# EAGLE library part ST-USB-ECMF02-4CMX8 (library duraTerm)
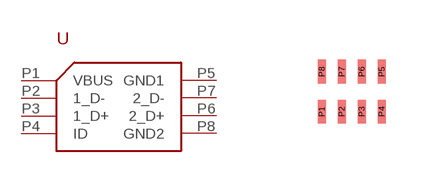
[diagram p4: symbol with the pads of UQFN-8L; footprint UQFN-8L]

Designator prefix U

## ST-USB-ECMF02-4CMX8  [UQFN-8L]
P1  VBUS
P2  1_D-
P3  1_D+
P4  ID
P5  GND1
P6  2_D+
P7  2_D-
P8  GND2

## Footprint UQFN-8L (pad centres in mm)
smd 0.2 x 0.6: P1 0,0; P2 0.5,0; P3 1,0; P4 1.5,0; P5 1.5,1; P6 1,1; P7 0.5,1; P8 0,1